# EAGLE library part MC34063 (library Schaltregler - MC34063)
Name des Bauteiles: -->MC34063A Daten:1500 mA , VIN : 12 - 30 VDC Artikelnummer:#040035 (THT) / 045046 (SMD) Datenblatt:www.alldatasheet.com __________________________________________ generated by Eagle Description Tool am : 22.01.2014 07:26:39 erstellt von: Hm
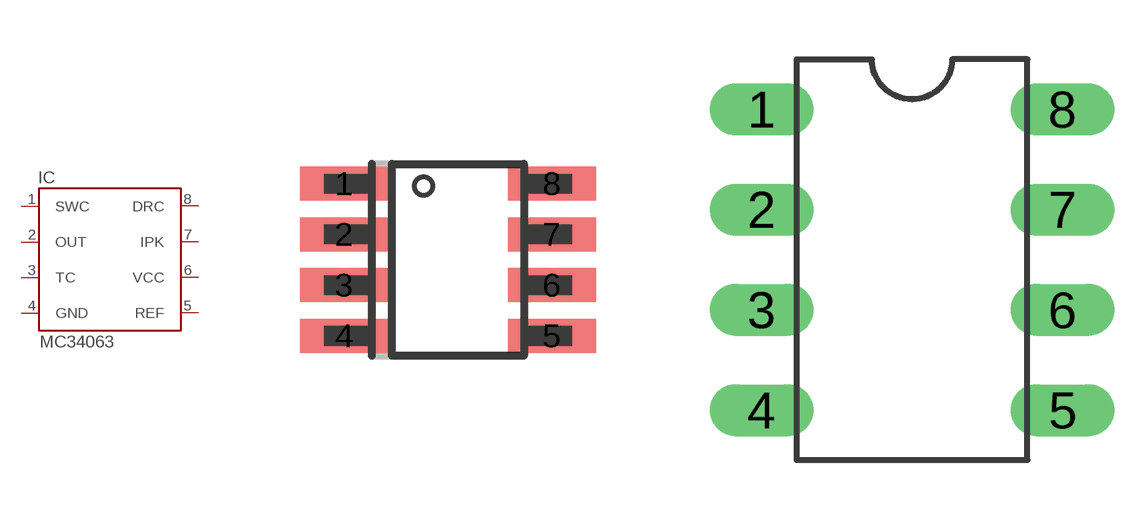
[diagram p0: symbol with the pads of SO8; footprints SO8, DIL8]

Designator prefix IC

## MC34063ACD-TR  [SO8]
1  SWC
2  OUT
3  TC
4  GND
5  REF
6  VCC
7  IPK
8  DRC

## MC34063AP1G  [DIL8]
Pads as for SO8

## Footprint SO8 (pad centres in mm)
smd 2.2 x 0.854: 1 -2.6,1.905; 2 -2.6,0.635; 3 -2.6,-0.635; 4 -2.6,-1.905; 5 2.6,-1.905; 6 2.6,-0.635; 7 2.6,0.635; 8 2.6,1.905

## Footprint DIL8 (pad centres in mm)
drill 0.813 long: 1 -3.81,3.81; 2 -3.81,1.27; 3 -3.81,-1.27; 4 -3.81,-3.81; 5 3.81,-3.81; 6 3.81,-1.27; 7 3.81,1.27; 8 3.81,3.81